# Altium integrated library ST Comm ISDN Circuit.IntLib: 15 symbols
Pins are listed as number, name and electrical type; pins without a type are passive.

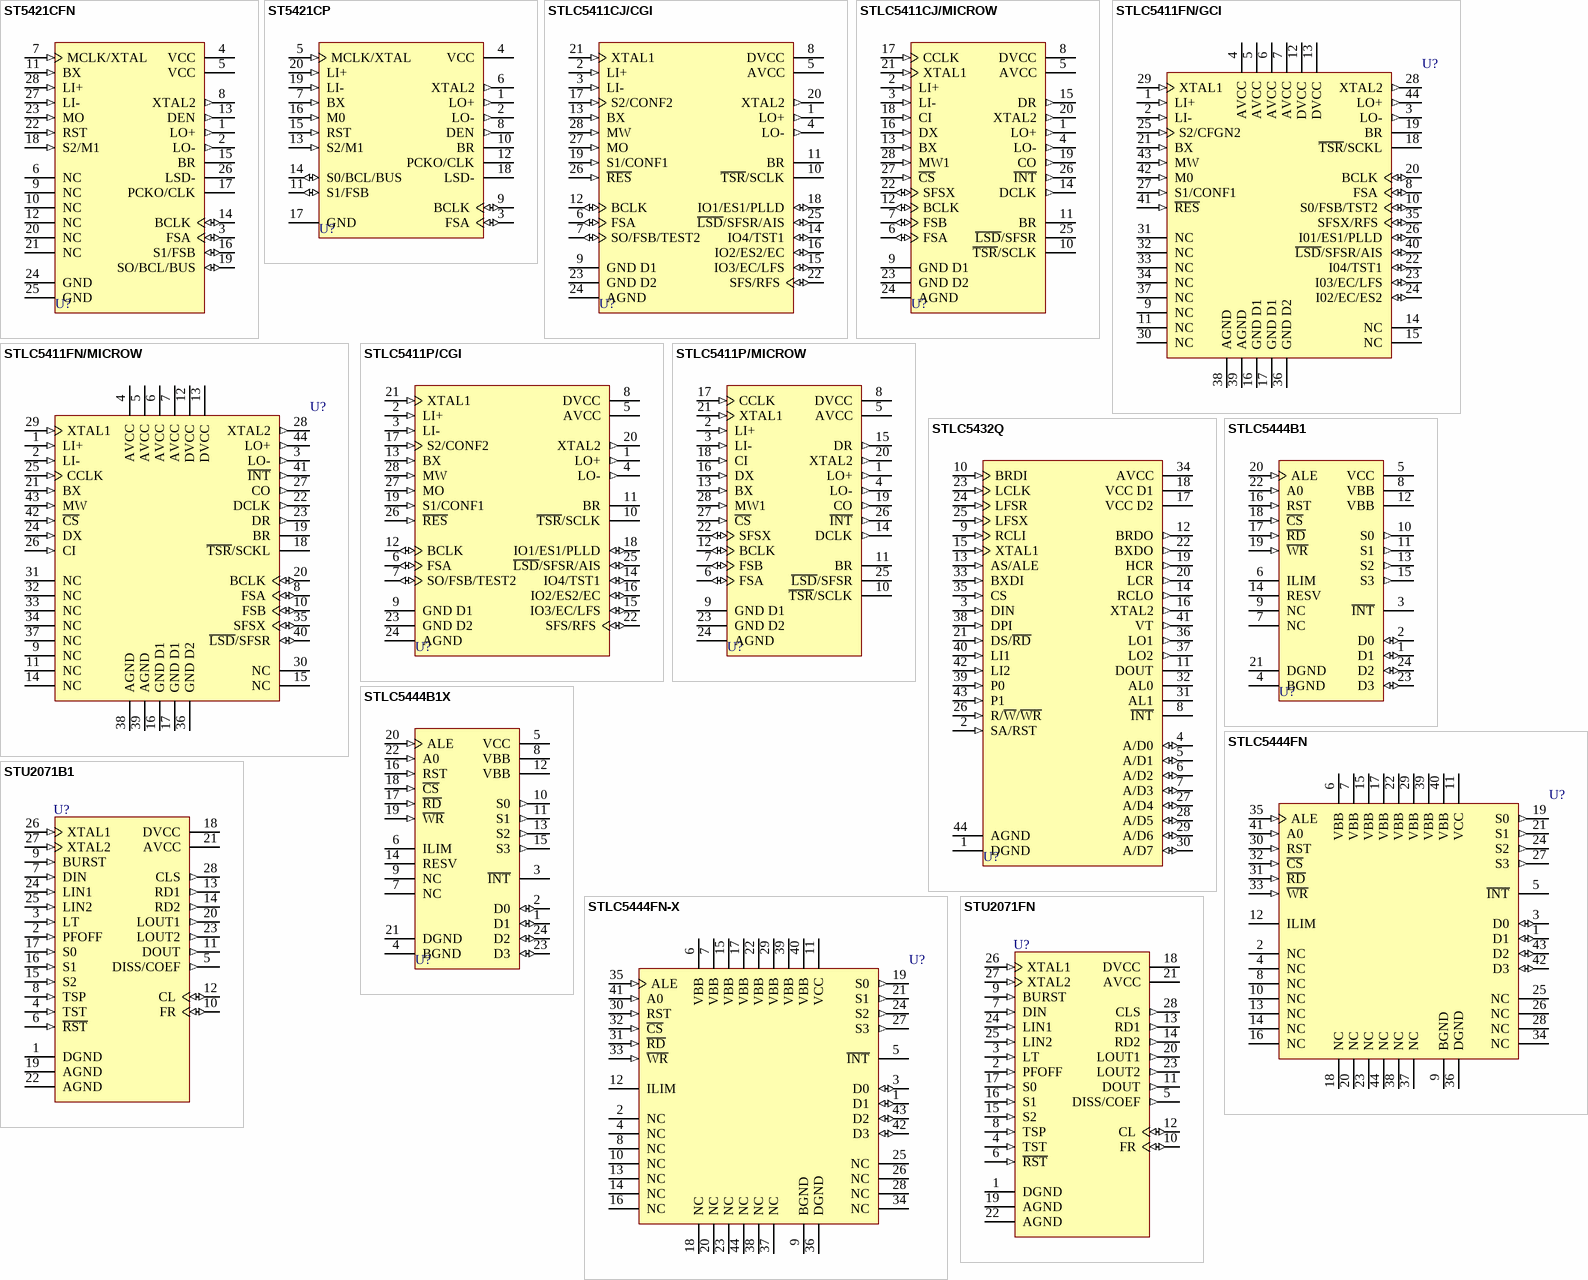
[diagram p0: symbols ST5421CFN to STU2071FN]

## ST5421CFN
designator U?
SID-GCI : S/T Interface Device with GCI; Published: 24-Aug-2001; LatestRevisionDate: 17-Jul-2002; LatestRevisionNote: Re-released for DXP Platform.; DatasheetDocument: Sep-1995; PackageDocument: Jan-1995; PackageReference: PLCC28; Publisher: Altium Limited; Code_IPC: PLCC-28
footprint PLCC28 (Leaded Chip Carrier; 28 Leads; Body 11.5 x 11.5 mm)
pins: 1 LO+ (out), 2 LO- (out), 3 FSA (io), 4 VCC (power), 5 VCC (power), 6 NC, 7 MCLK/XTAL (in), 8 XTAL2 (out), 9 NC, 10 NC, 11 BX (in), 12 NC, 13 DEN (out), 14 BCLK (io), 15 BR (oc), 16 S1/FSB (io), 17 PCKO/CLK (oc), 18 S2/M1 (in), 19 SO/BCL/BUS (io), 20 NC, 21 NC, 22 RST (in), 23 MO (in), 24 GND (power), 25 GND (power), 26 LSD- (oc), 27 LI- (in), 28 LI+ (in)

## ST5421CP
designator U?
SID-GCI : S/T Interface Device with GCI; Published: 24-Aug-2001; LatestRevisionDate: 17-Jul-2002; LatestRevisionNote: Re-released for DXP Platform.; DatasheetDocument: Sep-1995; PackageDocument: Jun-1998; PackageReference: DIP20; Publisher: Altium Limited; Code_JEDEC: MS-015-AE
footprint DIP20 (DIP; 20 Leads; Row Spacing 7.62 mm; Pitch 2.54 mm)
pins: 1 LO+ (out), 2 LO- (out), 3 FSA (io), 4 VCC (power), 5 MCLK/XTAL (in), 6 XTAL2 (out), 7 BX (in), 8 DEN (out), 9 BCLK (io), 10 BR (oc), 11 S1/FSB (io), 12 PCKO/CLK (oc), 13 S2/M1 (in), 14 S0/BCL/BUS (io), 15 RST (in), 16 M0 (in), 17 GND (power), 18 LSD- (oc), 19 LI- (in), 20 LI+ (in)

## STLC5411CJ/CGI
designator U?
2B1Q U Interface Device; Note: Configuration for GCI mode drawn and displayed.; Published: 24-Aug-2001; LatestRevisionDate: 17-Jul-2002; LatestRevisionNote: Re-released for DXP Platform.; DatasheetDocument: Feb-1995; PackageDocument: Jan-2003; PackageReference: CDIP28; Publisher: Altium Limited
footprint CDIP28 (DIP, Ceramic; 28 Leads; Row Spacing 15.24 mm; Pitch 2.54 mm)
pins: 1 LO+ (out), 2 LI+ (in), 3 LI- (in), 4 LO- (out), 5 AVCC (power), 6 FSA (io), 7 SO/FSB/TEST2 (io), 8 DVCC (power), 9 GND D1 (power), 10 ~{TSR}/SCLK (oc), 11 BR (oc), 12 BCLK (io), 13 BX (in), 14 IO4/TST1 (io), 15 IO3/EC/LFS (io), 16 IO2/ES2/EC (io), 17 S2/CONF2 (in), 18 IO1/ES1/PLLD (io), 19 S1/CONF1 (in), 20 XTAL2 (out), 21 XTAL1 (in), 22 SFS/RFS (io), 23 GND D2 (power), 24 AGND (power), 25 ~{LSD}/SFSR/AIS (io), 26 ~{RES} (in), 27 MO (in), 28 MW (in)

## STLC5411CJ/MICROW
designator U?
2B1Q U Interface Device; Note: Configuration for Microwire Mode drawn and displayed.; Published: 24-Aug-2001; LatestRevisionDate: 17-Jul-2002; LatestRevisionNote: Re-released for DXP Platform.; DatasheetDocument: Feb-1995; PackageDocument: Jan-2003; PackageReference: CDIP28; Publisher: Altium Limited
footprint CDIP28 (DIP, Ceramic; 28 Leads; Row Spacing 15.24 mm; Pitch 2.54 mm)
pins: 1 LO+ (out), 2 LI+ (in), 3 LI- (in), 4 LO- (out), 5 AVCC (power), 6 FSA (io), 7 FSB (io), 8 DVCC (power), 9 GND D1 (power), 10 ~{TSR}/SCLK (oc), 11 BR (hiz), 12 BCLK (io), 13 BX (in), 14 DCLK (out), 15 DR (out), 16 DX (in), 17 CCLK (in), 18 CI (in), 19 CO (out), 20 XTAL2 (out), 21 XTAL1 (in), 22 SFSX (io), 23 GND D2 (power), 24 AGND (power), 25 ~{LSD}/SFSR (oc), 26 ~{INT} (out), 27 ~{CS} (in), 28 MW1 (in)

## STLC5411FN/GCI
designator U?
2B1Q U Interface Device; Note: Configuration for GCI mode drawn and displayed.; Published: 24-Aug-2001; LatestRevisionDate: 17-Jul-2002; LatestRevisionNote: Re-released for DXP Platform.; DatasheetDocument: Nov-1996; PackageDocument: Feb-1997; PackageReference: PLCC44A; Publisher: Altium Limited; Code_IPC: PLCC-44
footprint PLCC44A (Leaded Chip Carrier; 44 Leads; Body 16.5 x 16.5 mm)
pins: 1 LI+ (in), 2 LI- (in), 3 LO- (out), 4 AVCC (power), 5 AVCC (power), 6 AVCC (power), 7 AVCC (power), 8 FSA (io), 9 NC, 10 S0/FSB/TST2 (io), 11 NC, 12 DVCC (power), 13 DVCC (power), 14 NC, 15 NC, 16 GND D1 (power), 17 GND D1 (power), 18 ~{TSR}/SCKL (oc), 19 BR (oc), 20 BCLK (io), 21 BX (in), 22 I04/TST1 (io), 23 I03/EC/LFS (io), 24 I02/EC/ES2 (io), 25 S2/CFGN2 (in), 26 I01/ES1/PLLD (io), 27 S1/CONF1 (in), 28 XTAL2 (out), 29 XTAL1 (in), 30 NC, 31 NC, 32 NC, 33 NC, 34 NC, 35 SFSX/RFS (io), 36 GND D2 (power), 37 NC, 38 AGND (power), 39 AGND (power), 40 ~{LSD}/SFSR/AIS (io), 41 ~{RES} (in), 42 M0 (in), 43 MW (in), 44 LO+ (out)

## STLC5411FN/MICROW
designator U?
2B1Q U Interface Device; Note: Configuration for Microwire Mode drawn and displayed.; Published: 24-Aug-2001; LatestRevisionDate: 17-Jul-2002; LatestRevisionNote: Re-released for DXP Platform.; DatasheetDocument: Nov-1996; PackageDocument: Feb-1997; PackageReference: PLCC44A; Publisher: Altium Limited; Code_IPC: PLCC-44
footprint PLCC44A (Leaded Chip Carrier; 44 Leads; Body 16.5 x 16.5 mm)
pins: 1 LI+ (in), 2 LI- (in), 3 LO- (out), 4 AVCC (power), 5 AVCC (power), 6 AVCC (power), 7 AVCC (power), 8 FSA (io), 9 NC, 10 FSB (io), 11 NC, 12 DVCC (power), 13 DVCC (power), 14 NC, 15 NC, 16 GND D1 (power), 17 GND D1 (power), 18 ~{TSR}/SCKL (oc), 19 BR (hiz), 20 BCLK (io), 21 BX (in), 22 DCLK (out), 23 DR (out), 24 DX (in), 25 CCLK (in), 26 CI (in), 27 CO (out), 28 XTAL2 (out), 29 XTAL1 (in), 30 NC, 31 NC, 32 NC, 33 NC, 34 NC, 35 SFSX (io), 36 GND D2 (power), 37 NC, 38 AGND (power), 39 AGND (power), 40 ~{LSD}/SFSR (io), 41 ~{INT} (out), 42 ~{CS} (in), 43 MW (in), 44 LO+ (out)

## STLC5411P/CGI
designator U?
2B1Q U Interface Device; Note: Configuration for GCI mode drawn and displayed.; Published: 24-Aug-2001; LatestRevisionDate: 17-Jul-2002; LatestRevisionNote: Re-released for DXP Platform.; DatasheetDocument: Nov-1996; PackageDocument: Jan-2003; PackageReference: PDIP28; Publisher: Altium Limited
footprint PDIP28 (DIP; 28 Leads; Row Spacing 15.24 mm; Pitch 2.54 mm)
pins: 1 LO+ (out), 2 LI+ (in), 3 LI- (in), 4 LO- (out), 5 AVCC (power), 6 FSA (io), 7 SO/FSB/TEST2 (io), 8 DVCC (power), 9 GND D1 (power), 10 ~{TSR}/SCLK (oc), 11 BR (oc), 12 BCLK (io), 13 BX (in), 14 IO4/TST1 (io), 15 IO3/EC/LFS (io), 16 IO2/ES2/EC (io), 17 S2/CONF2 (in), 18 IO1/ES1/PLLD (io), 19 S1/CONF1 (in), 20 XTAL2 (out), 21 XTAL1 (in), 22 SFS/RFS (io), 23 GND D2 (power), 24 AGND (power), 25 ~{LSD}/SFSR/AIS (io), 26 ~{RES} (in), 27 MO (in), 28 MW (in)

## STLC5411P/MICROW
designator U?
2B1Q U Interface Device; Note: Configuration for Microwire Mode drawn and displayed.; Published: 24-Aug-2001; LatestRevisionDate: 17-Jul-2002; LatestRevisionNote: Re-released for DXP Platform.; DatasheetDocument: Nov-1996; PackageDocument: Jan-2003; PackageReference: PDIP28; Publisher: Altium Limited
footprint PDIP28 (DIP; 28 Leads; Row Spacing 15.24 mm; Pitch 2.54 mm)
pins: 1 LO+ (out), 2 LI+ (in), 3 LI- (in), 4 LO- (out), 5 AVCC (power), 6 FSA (io), 7 FSB (io), 8 DVCC (power), 9 GND D1 (power), 10 ~{TSR}/SCLK (oc), 11 BR (hiz), 12 BCLK (io), 13 BX (in), 14 DCLK (out), 15 DR (out), 16 DX (in), 17 CCLK (in), 18 CI (in), 19 CO (out), 20 XTAL2 (out), 21 XTAL1 (in), 22 SFSX (io), 23 GND D2 (power), 24 AGND (power), 25 ~{LSD}/SFSR (oc), 26 ~{INT} (out), 27 ~{CS} (in), 28 MW1 (in)

## STLC5432Q
designator U?
2M-Bit CEPT & Primary Rate Controller Device; Published: 24-Aug-2001; LatestRevisionDate: 17-Jul-2002; LatestRevisionNote: Re-released for DXP Platform.; DatasheetDocument: Jul-1996; PackageDocument: Oct-2003; PackageReference: TQFP44; Publisher: Altium Limited
footprint TQFP44 (QFP, Plastic, Thin; 44 Leads; Body 10 x 10 mm; Pitch 0.8 mm)
pins: 1 DGND (power), 2 SA/RST (in), 3 DIN (in), 4 A/D0 (io), 5 A/D1 (io), 6 A/D2 (io), 7 A/D3 (io), 8 ~{INT} (oc), 9 RCLI (in), 10 BRDI (in), 11 DOUT (hiz), 12 BRDO (out), 13 AS/ALE (in), 14 RCLO (out), 15 XTAL1 (in), 16 XTAL2 (out), 17 VCC D2 (power), 18 VCC D1 (power), 19 HCR (out), 20 LCR (out), 21 DS/~{RD} (in), 22 BXDO (out), 23 LCLK (in), 24 LFSR (in), 25 LFSX (in), 26 R/~{W}/~{WR} (in), 27 A/D4 (io), 28 A/D5 (io), 29 A/D6 (io), 30 A/D7 (io), 31 AL1 (oc), 32 AL0 (oc), 33 BXDI (in), 34 AVCC (power), 35 CS (in), 36 LO1 (out), 37 LO2 (out), 38 DPI (in), 39 P0 (in), 40 LI1 (in), 41 VT (out), 42 LI2 (in), 43 P1 (in), 44 AGND (power)

## STLC5444B1
designator U?
Quad Feeder Power Supply; Published: 24-Aug-2001; LatestRevisionDate: 17-Jul-2002; LatestRevisionNote: Re-released for DXP Platform.; DatasheetDocument: Dec-1997; PackageDocument: Jan-1995; PackageReference: PDIP24; Publisher: Altium Limited
footprint PDIP24 (DIP; 24 Leads; Row Spacing 15.24 mm; Pitch 2.54 mm)
pins: 1 D1 (io), 2 D0 (io), 3 ~{INT} (oc), 4 BGND (power), 5 VCC (power), 6 ILIM, 7 NC, 8 VBB (power), 9 NC, 10 S0 (out), 11 S1 (out), 12 VBB (power), 13 S2 (out), 14 RESV, 15 S3 (out), 16 RST (in), 17 ~{RD} (in), 18 ~{CS} (in), 19 ~{WR} (in), 20 ALE (in), 21 DGND (power), 22 A0 (in), 23 D3 (io), 24 D2 (io)

## STLC5444B1X
designator U?
Quad Feeder Power Supply; Published: 24-Aug-2001; LatestRevisionDate: 17-Jul-2002; LatestRevisionNote: Re-released for DXP Platform.; DatasheetDocument: Dec-1996; PackageDocument: Jan-1995; PackageReference: PDIP24; Publisher: Altium Limited
footprint PDIP24 (DIP; 24 Leads; Row Spacing 15.24 mm; Pitch 2.54 mm)
pins: 1 D1 (io), 2 D0 (io), 3 ~{INT} (oc), 4 BGND (power), 5 VCC (power), 6 ILIM, 7 NC, 8 VBB (power), 9 NC, 10 S0 (out), 11 S1 (out), 12 VBB (power), 13 S2 (out), 14 RESV, 15 S3 (out), 16 RST (in), 17 ~{RD} (in), 18 ~{CS} (in), 19 ~{WR} (in), 20 ALE (in), 21 DGND (power), 22 A0 (in), 23 D3 (io), 24 D2 (io)

## STLC5444FN
designator U?
Quad Feeder Power Supply; Published: 24-Aug-2001; LatestRevisionDate: 17-Jul-2002; LatestRevisionNote: Re-released for DXP Platform.; DatasheetDocument: Dec-1997; PackageDocument: Feb-1997; PackageReference: PLCC44A; Publisher: Altium Limited; Code_IPC: PLCC-44
footprint PLCC44A (Leaded Chip Carrier; 44 Leads; Body 16.5 x 16.5 mm)
pins: 1 D1 (io), 2 NC, 3 D0 (io), 4 NC, 5 ~{INT} (oc), 6 VBB (power), 7 VBB (power), 8 NC, 9 BGND (power), 10 NC, 11 VCC (power), 12 ILIM, 13 NC, 14 NC, 15 VBB (power), 16 NC, 17 VBB (power), 18 NC, 19 S0 (out), 20 NC, 21 S1 (out), 22 VBB (power), 23 NC, 24 S2 (out), 25 NC, 26 NC, 27 S3 (out), 28 NC, 29 VBB (power), 30 RST (in), 31 ~{RD} (in), 32 ~{CS} (in), 33 ~{WR} (in), 34 NC, 35 ALE (in), 36 DGND (power), 37 NC, 38 NC, 39 VBB (power), 40 VBB (power), 41 A0 (in), 42 D3 (io), 43 D2 (io), 44 NC

## STLC5444FN-X
designator U?
Quad Feeder Power Supply; Published: 24-Aug-2001; LatestRevisionDate: 17-Jul-2002; LatestRevisionNote: Re-released for DXP Platform.; DatasheetDocument: Dec-1996; PackageDocument: Feb-1997; PackageReference: PLCC44A; Publisher: Altium Limited; Code_IPC: PLCC-44
footprint PLCC44A (Leaded Chip Carrier; 44 Leads; Body 16.5 x 16.5 mm)
pins: 1 D1 (io), 2 NC, 3 D0 (io), 4 NC, 5 ~{INT} (oc), 6 VBB (power), 7 VBB (power), 8 NC, 9 BGND (power), 10 NC, 11 VCC (power), 12 ILIM, 13 NC, 14 NC, 15 VBB (power), 16 NC, 17 VBB (power), 18 NC, 19 S0 (out), 20 NC, 21 S1 (out), 22 VBB (power), 23 NC, 24 S2 (out), 25 NC, 26 NC, 27 S3 (out), 28 NC, 29 VBB (power), 30 RST (in), 31 ~{RD} (in), 32 ~{CS} (in), 33 ~{WR} (in), 34 NC, 35 ALE (in), 36 DGND (power), 37 NC, 38 NC, 39 VBB (power), 40 VBB (power), 41 A0 (in), 42 D3 (io), 43 D2 (io), 44 NC

## STU2071B1
designator U?
4B3T U Interface Device; Published: 24-Aug-2001; LatestRevisionDate: 17-Jul-2002; LatestRevisionNote: Re-released for DXP Platform.; DatasheetDocument: Sep-1994; PackageDocument: Jan-2003; PackageReference: PDIP28; Publisher: Altium Limited
footprint PDIP28 (DIP; 28 Leads; Row Spacing 15.24 mm; Pitch 2.54 mm)
pins: 1 DGND (power), 2 PFOFF (in), 3 LT (in), 4 TST (in), 5 DISS/COEF (out), 6 ~{RST} (in), 7 DIN (in), 8 TSP (in), 9 BURST (in), 10 FR (io), 11 DOUT (out), 12 CL (io), 13 RD1 (out), 14 RD2 (out), 15 S2 (in), 16 S1 (in), 17 S0 (in), 18 DVCC (power), 19 AGND (power), 20 LOUT1 (out), 21 AVCC (power), 22 AGND (power), 23 LOUT2 (out), 24 LIN1 (in), 25 LIN2 (in), 26 XTAL1 (in), 27 XTAL2 (in), 28 CLS (out)

## STU2071FN
designator U?
4B3T U Interface Device; Published: 24-Aug-2001; LatestRevisionDate: 17-Jul-2002; LatestRevisionNote: Re-released for DXP Platform.; DatasheetDocument: Sep-1994; PackageDocument: Jan-1995; PackageReference: PLCC28; Publisher: Altium Limited; Code_IPC: PLCC-28
footprint PLCC28 (Leaded Chip Carrier; 28 Leads; Body 11.5 x 11.5 mm)
pins: 1 DGND (power), 2 PFOFF (in), 3 LT (in), 4 TST (in), 5 DISS/COEF (out), 6 ~{RST} (in), 7 DIN (in), 8 TSP (in), 9 BURST (in), 10 FR (io), 11 DOUT (out), 12 CL (io), 13 RD1 (out), 14 RD2 (out), 15 S2 (in), 16 S1 (in), 17 S0 (in), 18 DVCC (power), 19 AGND (power), 20 LOUT1 (out), 21 AVCC (power), 22 AGND (power), 23 LOUT2 (out), 24 LIN1 (in), 25 LIN2 (in), 26 XTAL1 (in), 27 XTAL2 (in), 28 CLS (out)